# EAGLE library part SN74LVC1G3157 (library bschulz)
SN74LVC1G3157 - SPDT Analog Switch Characteristics: VCC: 1.65~5.5V Operating Temperature: -40°C to 85°C On state resistace: 15 Ω, Max Channel to Channel Matching: 0.1 Ω, Typical Digikey: 296-14909-1-ND (SC70, DCK) <https://www.digikey.com/product-detail/en/texas-instruments/SN74LVC1G3157DCKR/296-14909-1-ND/562526> 296-18015-1-ND (SOT-666, DRL) <https://www.digikey.com/product-detail/en/texas-instruments/SN74LVC1G3157DRLR/296-18015-1-ND/770530>
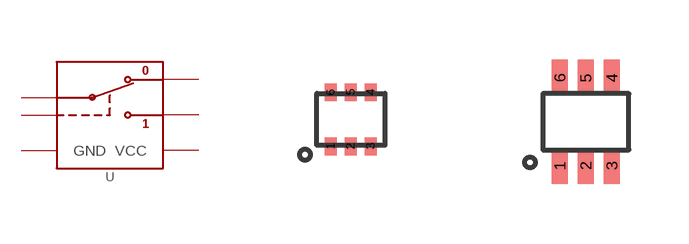
[diagram p40: symbol with the pads of DRL_R-PDSO-N6; footprints DRL_R-PDSO-N6, DCK_R-PDSO-G6]

Designator prefix U

## SN74LVC1G3157DRL (DIGIKEY: 296-18015-1-ND; DISP: SN74LVC1G3157; MF: TI; MPN: SN74LVC1G3157DRLR)  [DRL_R-PDSO-N6]
1  B2
2  GND  pwr
3  B1
4  A
5  VCC  pwr
6  S  in

## SN74LVC1G3157SC70 (DIGIKEY: 296-14909-1-ND; DISP: SN74LVC1G3157; MF: TI; MPN: SN74LVC1G3157DCKR)  [DCK_R-PDSO-G6]
Pads as for DRL_R-PDSO-N6

## Footprint DRL_R-PDSO-N6 (pad centres in mm)
smd 0.3 x 0.45: 1 -0.5,-0.675; 2 0,-0.675; 3 0.5,-0.675; 4 0.5,0.675; 5 0,0.675; 6 -0.5,0.675

## Footprint DCK_R-PDSO-G6 (pad centres in mm)
smd 0.4 x 0.9: 1 -0.65,-1.1; 2 0,-1.1; 3 0.65,-1.1; 4 0.65,1.1; 5 0,1.1; 6 -0.65,1.1